# Altium schematic symbol library Crystal_4P_1_3.Schlib: 1 symbol
Pins are listed as number, name and electrical type; pins without a type are passive.

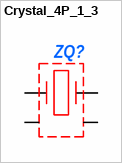
[diagram p0: symbol Crystal_4P_1_3]

## Crystal_4P_1_3
designator ZQ?  (value not drawn)
Кварцевый резонатор; ComponentLink1Description: *; ComponentLink1URL: *; ComponentLink2Description: *; ComponentLink2URL: *
pins: 1, 2 (power) hidden, 2, 3, 4 (power) hidden, 4